# Altium footprint library PcbLib1.PcbLib: 20 footprints (part 2 of 2)
Each footprint in its own frame and in the unit in brackets; x right, y up, seen from the top. Pads: shape width x height; smd on the part's side, far side on the other; paste and mask are expansions set on the pad; w line width, h text height; cw(c..) or ccw(c..) is an arc to the next point about the centre after c.
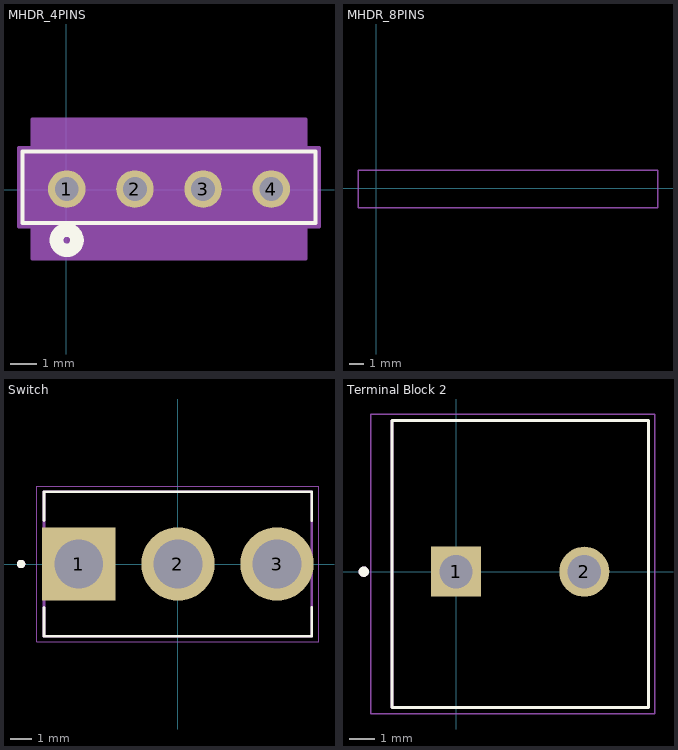
[diagram p1: the footprints below, top view; thin cyan lines are the x and y axes]

## MHDR_4PINS [mil]
pads (4):
  round 55 / inner round 60 / far side round 55 hole 35 paste-99999 mask+0: 1(0.51,0.83) 2(100.51,0.83) 3(200.51,0.83) 4(300.51,0.83)
Top Overlay:
  circle w20: c0.51,-74.17 r15
  lines w6: -64.49,-49.17 -64.49,55.83 365.51,55.83 365.51,-49.17 -64.49,-49.17
Bottom Overlay:
  circle w20: c0.51,-74.17 r15
Mechanical 13:
  circle w0: c0.51,0.83 r10
  lines w1: -59.49,-44.17 -59.49,50.83 360.51,50.83 360.51,-44.17 -59.49,-44.17
Mechanical 15:
  region: 370.51,60.83 350.51,60.83 350.51,102.83 -49.49,102.83 -49.49,60.83 -69.49,60.83 -69.49,-54.17 -49.49,-54.17 -49.49,-101.17 350.51,-101.17 350.51,-54.17 370.51,-54.17
  lines w6: -69.49,-54.17 -49.49,-54.17 -49.49,-101.17 350.51,-101.17 350.51,-54.17 370.51,-54.17 370.51,60.83 350.51,60.83 350.51,102.83 -49.49,102.83 -49.49,60.83 -69.49,60.83 -69.49,-54.17
3D body "CON4_1X4_TU_TSW.step": height 500, standoff -200, extent -49.49,-49.17 350.51,50.83

## MHDR_8PINS [mm]
Mechanical 13:
  lines w0.1: -1.248,-1.309 -1.248,1.231 19.072,1.231 19.072,-1.309 -1.248,-1.309
3D body "TSW-108-07-G-S-LL.stp": height 5.54, standoff -5.38, extent -1.3,-1.27 19.147,1.27

## Switch [mil]
pads (3):
  rect 137x137 / inner round 137 / far side rect 137x137 hole 91: 1(-185,0)
  round 137 hole 91: 2(0,0) 3(185,0)
Top Overlay:
  circle w7.87: c-292.87,0 r3.94
  lines w5: -250,-81.1 -250,-135 250,-135 250,-81.1 ; -250,81.1 -250,135 250,135 250,81.1
Mechanical 13:
  circle w7.87: c-292.87,0 r3.94
  lines w5: -250,-135 250,-135 250,135 -250,135 -250,-135
Mechanical 15:
  lines w1.97: -263.34,-144.84 263.34,-144.84 263.34,144.84 -263.34,144.84 -263.34,-144.84
3D body "M2012SS1W01.stp": height 1156.69, standoff -164.3, extent -256.09,-236.22 255.91,235.68

## Terminal Block 2 [mm]
pads (2):
  rect 1.95x1.95 / inner round 1.95 / far side rect 1.95x1.95 hole 1.3: 1(0,0)
  round 1.95 hole 1.3: 2(5,0)
Top Overlay:
  circle w0.2: c-3.6,0 r0.1
  lines w0.127: -2.5,-5.3 7.5,-5.3 7.5,5.9 -2.5,5.9 -2.5,-5.3
Mechanical 13:
  circle w0.2: c-3.6,0 r0.1
  lines w0.127: -2.5,-5.3 7.5,-5.3 7.5,5.9 -2.5,5.9 -2.5,-5.3
Mechanical 15:
  lines w0.05: -3.32,-5.55 7.75,-5.55 7.75,6.15 -3.32,6.15 -3.32,-5.55
3D body "User Library-DG128-5_0-02P-14.STEP": height 14.1, standoff -3.5, extent -2.864,-5.207 7.436,4.993